# EAGLE library part 61001621821 (library Board_to_Board_Connectors_rev15d)
WR-PHD 2.54mm Dual SMT Socket Header, 16 Pins=>Code : Con_BTB_SHD_2.54_1_SMT_61001621821 <http://katalog.we-online.de/media/images/eican/Con_BTB_SHD_2.54_1_SMT_6100xx21821_pf2.jpg> Details see: http://katalog.we-online.de/en/em/610_0xx_218_21 Created 2014-05-30, Karrer Zheng 2014 (C) Würth Elektronik
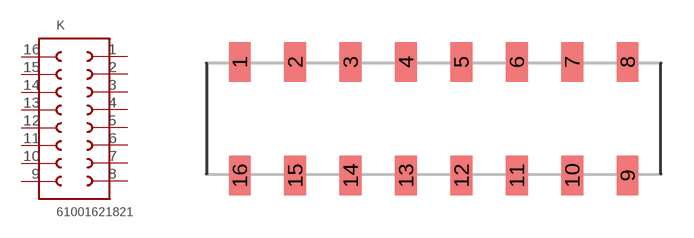
[diagram p217: symbol with the pads of 61001621821; footprint 61001621821]

Designator prefix K

## 61001621821  [61001621821]
1  1  pas
2  2  pas
3  3  pas
4  4  pas
5  5  pas
6  6  pas
7  7  pas
8  8  pas
9  9  pas
10  10  pas
11  11  pas
12  12  pas
13  13  pas
14  14  pas
15  15  pas
16  16  pas

## Footprint 61001621821 (pad centres in mm)
WR-PHD 2.54mm Dual SMT Socket Header, 16 Pins
smd 1 x 1.8: 1 -8.89,2.6; 2 -6.35,2.6; 3 -3.81,2.6; 4 -1.27,2.6; 5 1.27,2.6; 6 3.81,2.6; 7 6.35,2.6; 8 8.89,2.6; 9 8.89,-2.6; 10 6.35,-2.6; 11 3.81,-2.6; 12 1.27,-2.6; 13 -1.27,-2.6; 14 -3.81,-2.6; 15 -6.35,-2.6; 16 -8.89,-2.6